# EAGLE library part RT8070 (library dc-dc)
IC REG BUCK SYNC ADJ 4A 8WDFN Datasheet <https://www.richtek.com/assets/product_file/RT8070/DS8070-08.pdf>
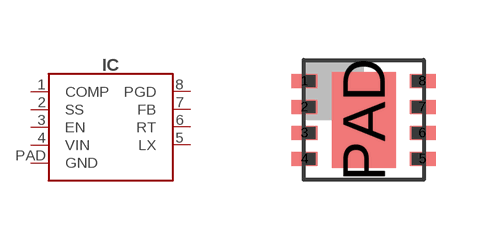
[diagram p1: symbol with the pads of DFN-8.3X3.PAD; footprint DFN-8.3X3.PAD]

Designator prefix IC

## RT8070 (DIGIKEY#: 1028-1108-1-ND; MANF: Richtek USA Inc; MANF#: RT8070ZQW)  [DFN-8.3X3.PAD]
1  COMP
2  SS
3  EN
4  VIN
5  LX
6  RT
7  FB
8  PGD
PAD  GND

## Footprint DFN-8.3X3.PAD (pad centres in mm)
smd 0.65 x 0.35: 1 -1.475,0.975; 2 -1.475,0.325; 3 -1.475,-0.325; 4 -1.475,-0.975; 5 1.475,-0.975; 6 1.475,-0.325; 7 1.475,0.325; 8 1.475,0.975
smd 1.6 x 2.4: PAD 0,0